# EAGLE library part LTC2945-MSOP (library Raj)
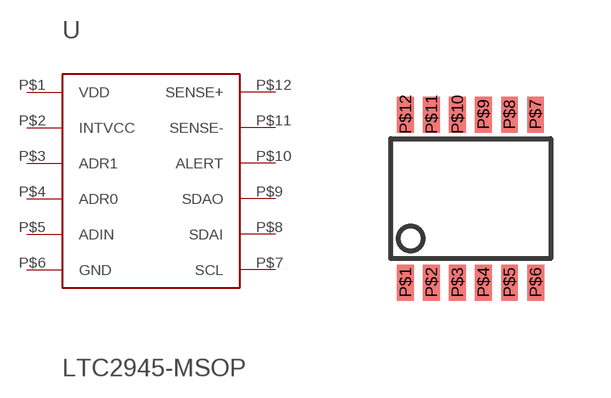
[diagram p3: symbol with the pads of MSOP12; footprint MSOP12]

Designator prefix -

## LTC2945-MSOP  [MSOP12]
P$1  VDD
P$2  INTVCC
P$3  ADR1
P$4  ADR0
P$5  ADIN
P$6  GND
P$7  SCL
P$8  SDAI
P$9  SDAO
P$10  ALERT
P$11  SENSE-
P$12  SENSE+

## Footprint MSOP12 (pad centres in mm)
MS Package 12-Lead
smd 0.42 x 0.9: P$1 0.37,-0.6; P$2 1.02,-0.6; P$3 1.67,-0.6; P$4 2.32,-0.6; P$5 2.973,-0.6; P$6 3.627,-0.6; P$7 3.623,3.6; P$8 2.973,3.6; P$9 2.32,3.6; P$10 1.67,3.6; P$11 1.02,3.6; P$12 0.37,3.6